# EAGLE library part MCP3428 (library bschulz)
MCP3428 - Sigma Delta ADC - 8 Channel Characteristics: VCC: 2.7~5.5V Operating Temperature: -40°C to 125°C Number of Inputs: 1 (Differenital) Sample Rate: 15 Samples Per Second Number of Bits: 16 Digikey: MCP3428-E/SL-ND <https://www.digikey.com/en/products/detail/microchip-technology/MCP3428-E-SL/2179226>
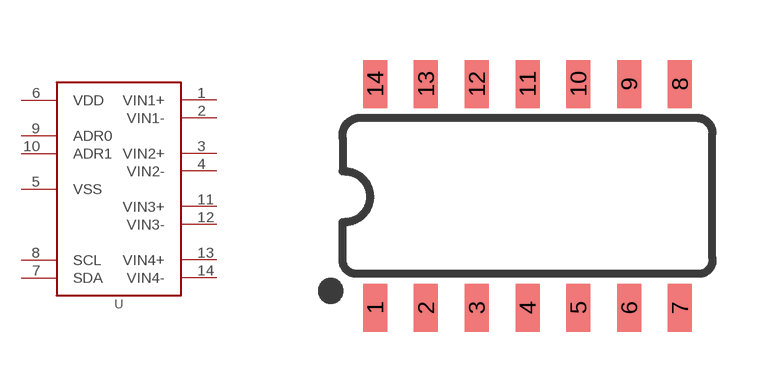
[diagram p153: symbol with the pads of SO14; footprint SO14]

Designator prefix U

## MCP3428 (DIGIKEY: MCP3428-E/SL-ND; MF: Microchip; MPN: MCP3428-E/SL)  [SO14]
1  VIN1+  in
2  VIN1-  in
3  VIN2+  in
4  VIN2-  in
5  VSS  pwr
6  VDD  pwr
7  SDA
8  SCL
9  ADR0  pwr
10  ADR1  pwr
11  VIN3+  in
12  VIN3-  in
13  VIN4+  in
14  VIN4-  in

## Footprint SO14 (pad centres in mm)
SOIC, 0.15 inch width
smd 0.6 x 1.2: 1 -3.175,-2.8; 2 -1.905,-2.8; 3 -0.635,-2.8; 4 0.635,-2.8; 5 1.905,-2.8; 6 3.175,-2.8; 7 4.445,-2.8; 8 4.445,2.8; 9 3.175,2.8; 10 1.905,2.8; 11 0.635,2.8; 12 -0.635,2.8; 13 -1.905,2.8; 14 -3.175,2.8